# Altium schematic symbol library Components - 26.03.22 - 10.12.SchLib: 1 symbol
Pins are listed as number, name and electrical type; pins without a type are passive.

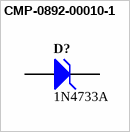
[diagram p0: symbol CMP-0892-00010-1]

## CMP-0892-00010-1
designator D?, comment 1N4733A
Zener Diode, 5.1V, 1W, 5%, -65 to 200 degC, 2-Pin DO-41, Body 2.72 x 5.2 mm, RoHS; Manufacturer: Fairchild Semiconductor; VZ (Max.) (V): 5.355; VZ (Min.) (V): 4.845; Test Current IZ (mA): 49; IR (uA): 10; PD (W): 1; ZZ (Max) (ohm): 7; PackageVersion: Rev. 2; Operating and Storage Temperature Range: -65 to 200 degC; Tolerance: 5%; ComponentLink3URL: http://www.fairchildsemi.com/dwg/DO/DO41A.pdf; ComponentLink1URL: http://www.fairchildsemi.com/; PackageDescription: 2-Pin Axial leaded, Body 2.72 x 5.2 mm, Lead Spread 25.4 mm; PartNumber: 1N4733A; ComponentLink2Description: Datasheet; RoHS: TRUE; ComponentLink3Description: Package Specification; ComponentLink2URL: http://www.fairchildsemi.com/ds/1N/1N4744A.pdf; ComponentLink1Description: Manufacturer URL; PackageReference: DO-41-2; DatasheetVersion: Rev. H3; Mounting Technology: Through Hole
footprint FAIR-DO-41-2_V (2-Leads, Axial leaded, Body 2.72x5.2mm, Pin Spacing 9mm)
pins: 1 A, 2 K